# Altium integrated library NSC Audio.IntLib: 301 symbols (part 8 of 8)
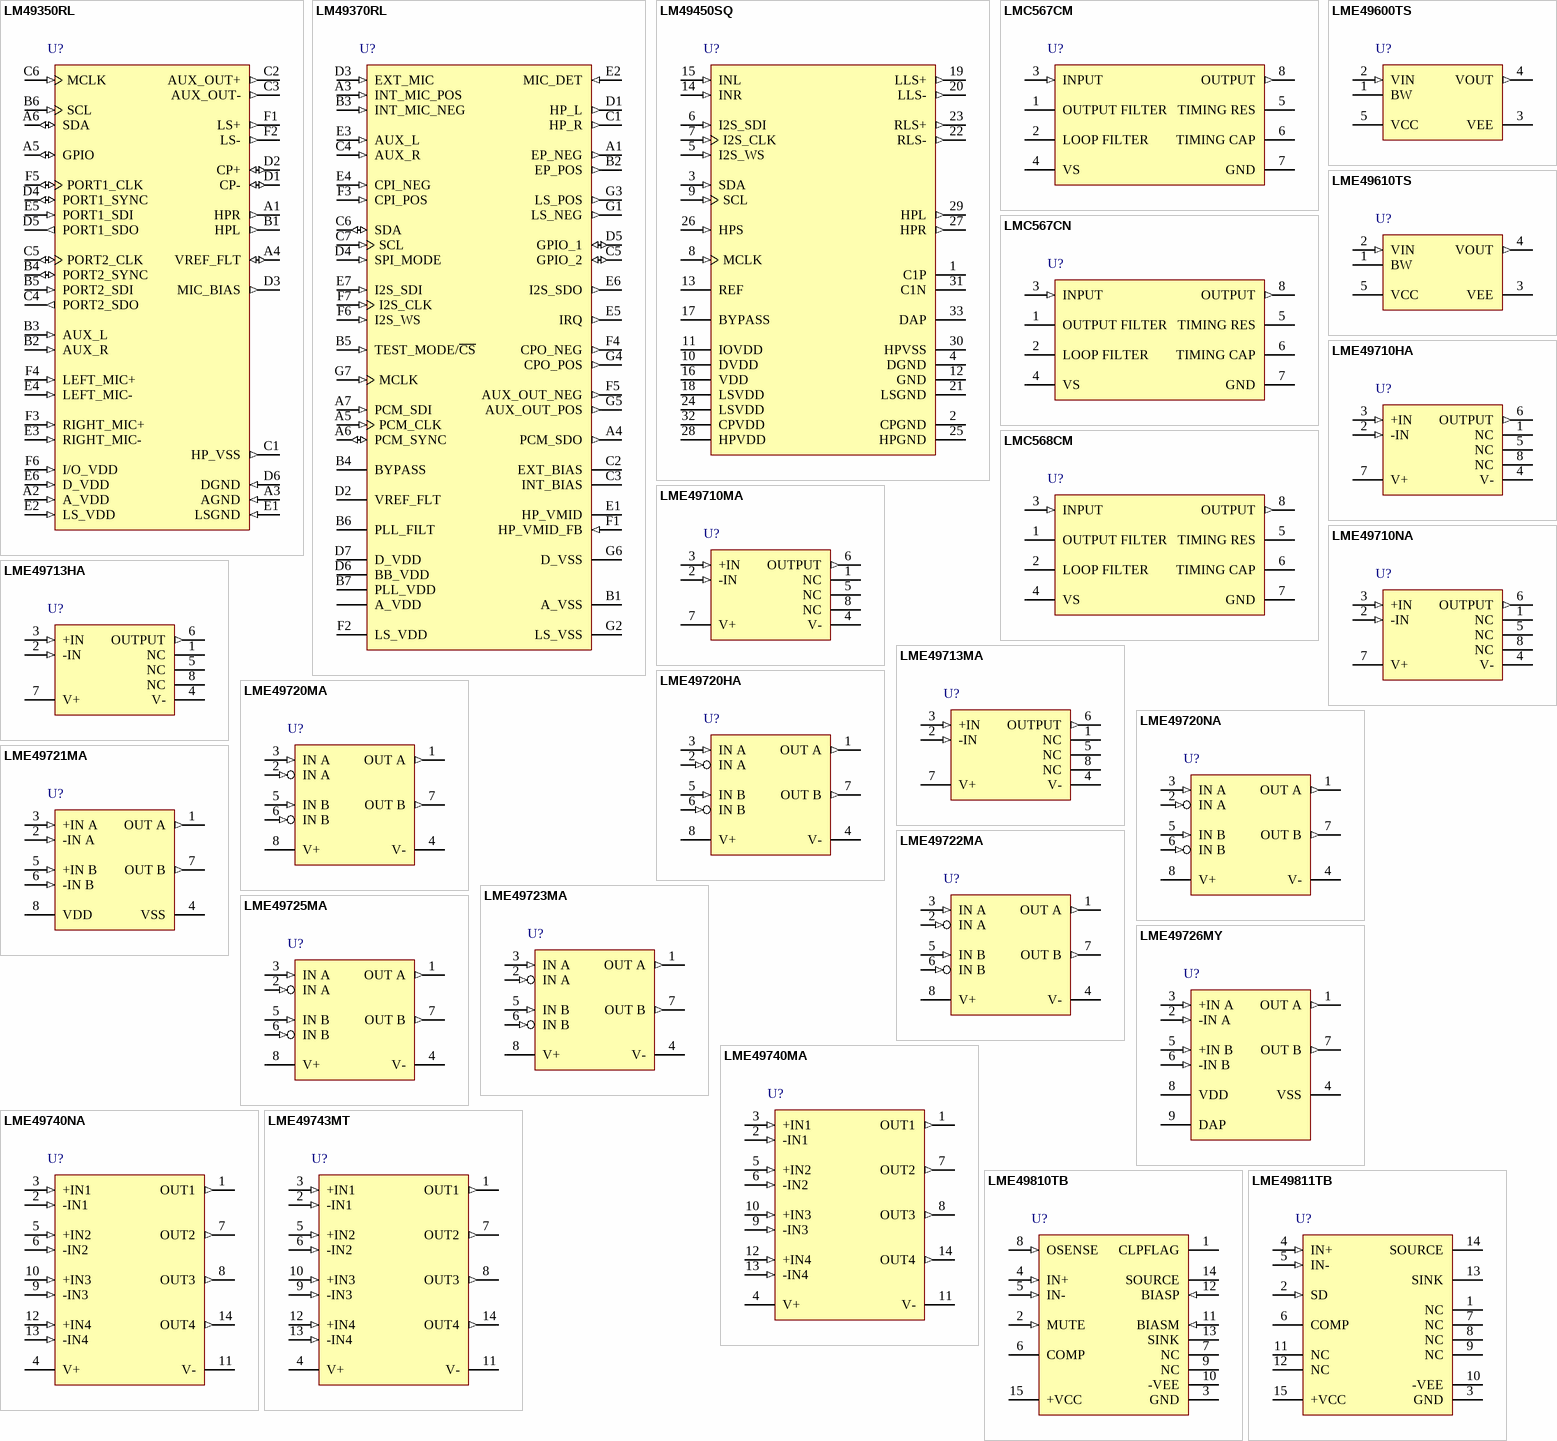
[diagram p19: symbols LM49350RL to LME49811TB]

## LME49743MT
designator U?
Quad High Performance, High Fidelity Audio Operational Amplifier; PartNumber: LME49743MT; Manufacturer: National Semiconductor; CompType: Audio IC; PackageTopMarking: NSUZXYTT*L49743*MT; Published: 4-Dec-2008; DatasheetVersion: Mar-2008; PackageVersion: revD, Jun-2003; PackageReference: MTC14; PackageDescription: Molded TSSOP, JEDEC, 5 x 4.4 x 0.9mm Body, 14 Lead, 0.65mm Pitch; RoHS: Y; PinCount: 14; DigiKeyPartNumber: LME49743MT-ND; Code_JEDEC: MO-153-AB-1; ComponentLink1Description: LME49743 Datasheet; ComponentLink1URL: http://www.national.com/ds/LM/LME49743.pdf; ComponentLink2Description: LME49743 Web Page; ComponentLink2URL: http://www.national.com/pf/LM/LME49743.html; ComponentLink3Description: MTC14 Package Page; ComponentLink3URL: http://www.national.com/packaging/folders/mtc14.html
footprint MTC14_N (TSOP, 14-Leads, Body 5x4.4mm, Pitch 0.65mm, IPC Medium Density)
footprint MTC14_L (TSOP, 14-Leads, Body 5x4.4mm, Pitch 0.65mm, IPC High Density)
footprint MTC14_M (TSOP, 14-Leads, Body 5x4.4mm, Pitch 0.65mm, IPC Low Density)
pins: 1 OUT1 (out), 2 -IN1 (in), 3 +IN1 (in), 4 V+ (power), 5 +IN2 (in), 6 -IN2 (in), 7 OUT2 (out), 8 OUT3 (out), 9 -IN3 (in), 10 +IN3 (in), 11 V- (power), 12 +IN4 (in), 13 -IN4 (in), 14 OUT4 (out)

## LME49810TB
designator U?
200V Audio Power Amplifier Driver  with Baker Clamp; PartNumber: LME49810TB; Manufacturer: National Semiconductor; CompType: Audio IC; PackageTopMarking: NSUZXYTT*LME49810*TB; Published: 4-Dec-2008; DatasheetVersion: Sep-2007; PackageVersion: revA, Feb-2005; PackageReference: TB15A; PackageDescription: TO-247, Molded, 19.0 x 11.5 x 2.54mm, 15 Lead, 0.965mm Pitch; RoHS: Y; PinCount: 15; DigiKeyPartNumber: LME49810TB-ND; ComponentLink1Description: LME49810 Datasheet; ComponentLink1URL: http://www.national.com/ds/LM/LME49810.pdf; ComponentLink2Description: LME49810 Web Page; ComponentLink2URL: http://www.national.com/pf/LM/LME49810.html; ComponentLink3Description: TB15A Package Page; ComponentLink3URL: http://www.national.com/packaging/folders/tb15a.html
footprint TB15A (In-Line; 15 Zig-Zag Leads; Body 19 x 2.54mm; Pitch 0.965mm)
pins: 1 CLPFLAG (oc), 2 MUTE (in), 3 GND (power), 4 IN+ (in), 5 IN- (in), 6 COMP, 7 NC, 8 OSENSE (in), 9 NC, 10 -VEE (power), 11 BIASM (in), 12 BIASP (in), 13 SINK (oc), 14 SOURCE (oe), 15 +VCC (power)

## LME49811TB
designator U?
High Fidelity 200 Volt Power Amplifier Input Stage with Shutdown; PartNumber: LME49811TB; Manufacturer: National Semiconductor; CompType: Audio IC; PackageTopMarking: NSUZXYTT*LME49811*TB; Published: 4-Dec-2008; DatasheetVersion: Jan-2008; PackageVersion: revA, Feb-2005; PackageReference: TB15A; PackageDescription: TO-247, Molded, 19.0 x 11.5 x 2.54mm, 15 Lead, 0.965mm Pitch; RoHS: Y; PinCount: 15; DigiKeyPartNumber: LME49811TB-ND; ComponentLink1Description: LME49811 Datasheet; ComponentLink1URL: http://www.national.com/ds/LM/LME49811.pdf; ComponentLink2Description: LME49811 Web Page; ComponentLink2URL: http://www.national.com/pf/LM/LME49811.html; ComponentLink3Description: TB15A Package Page; ComponentLink3URL: http://www.national.com/packaging/folders/tb15a.html
footprint TB15A (In-Line; 15 Zig-Zag Leads; Body 19 x 2.54mm; Pitch 0.965mm)
pins: 1 NC, 2 SD (in), 3 GND (power), 4 IN+ (in), 5 IN- (in), 6 COMP, 7 NC, 8 NC, 9 NC, 10 -VEE (power), 11 NC, 12 NC, 13 SINK (oc), 14 SOURCE (oe), 15 +VCC (power)

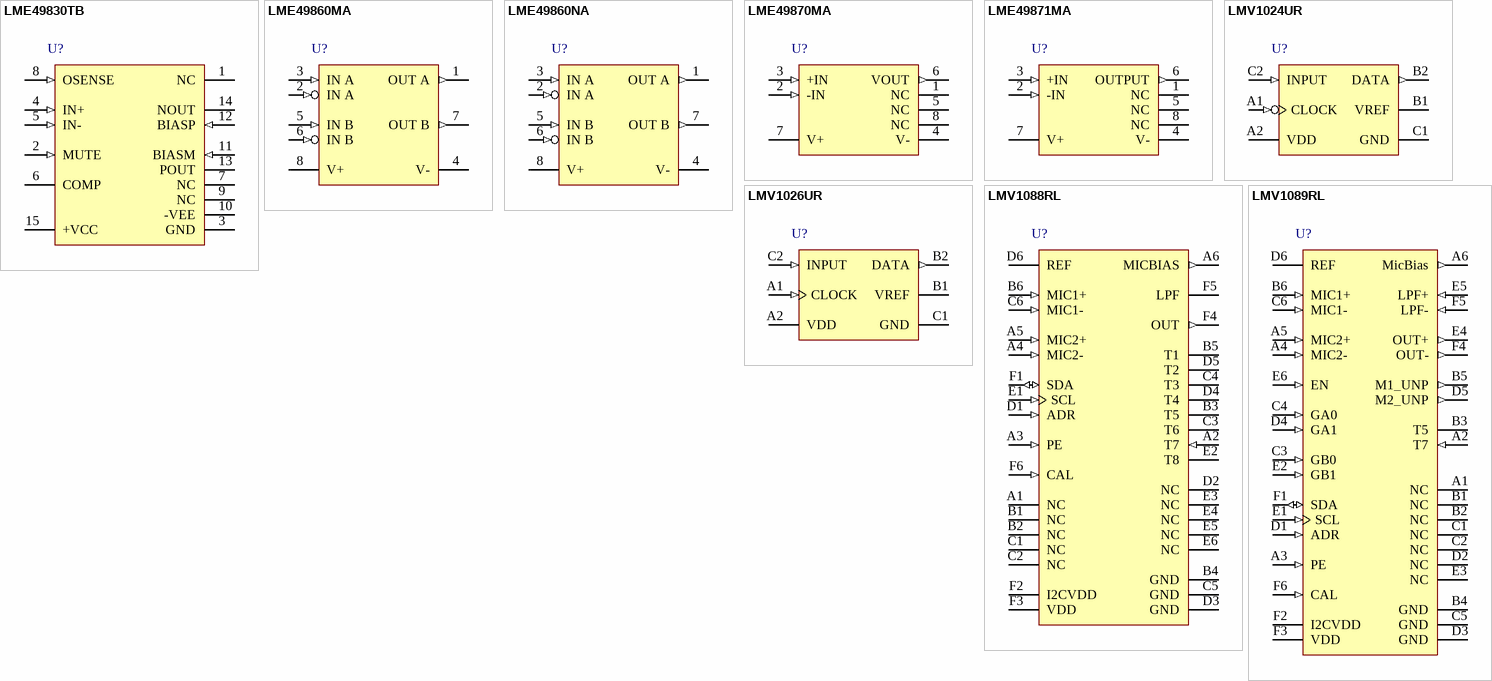
[diagram p12: symbols LME49830TB to LMV1089RL]

## LME49830TB
designator U?
Mono High Fidelity 200 Volt MOSFET Power Amplifier Input Stage with Mute; PartNumber: LME49830TB; Manufacturer: National Semiconductor; CompType: Audio IC; PackageTopMarking: NSUZXYTT*LME49830*TB; Published: 4-Dec-2008; DatasheetVersion: Jan-2008; PackageVersion: revA, Feb-2005; PackageReference: TB15A; PackageDescription: TO-247, Molded, 19.0 x 11.5 x 2.54mm, 15 Lead, 0.965mm Pitch; RoHS: Y; PinCount: 15; DigiKeyPartNumber: LME49830TB-ND; ComponentLink1Description: LME49830 Datasheet; ComponentLink1URL: http://www.national.com/ds/LM/LME49830.pdf; ComponentLink2Description: LME49830 Web Page; ComponentLink2URL: http://www.national.com/pf/LM/LME49830.html; ComponentLink3Description: TB15A Package Page; ComponentLink3URL: http://www.national.com/packaging/folders/tb15a.html
footprint TB15A (In-Line; 15 Zig-Zag Leads; Body 19 x 2.54mm; Pitch 0.965mm)
pins: 1 NC, 2 MUTE (in), 3 GND (power), 4 IN+ (in), 5 IN- (in), 6 COMP, 7 NC, 8 OSENSE (in), 9 NC, 10 -VEE (power), 11 BIASM (in), 12 BIASP (in), 13 POUT (oc), 14 NOUT (oe), 15 +VCC (power)

## LME49860MA
designator U?
44V Dual High Performance, High Fidelity Audio Operational Amplifier; PartNumber: LME49860MA; Manufacturer: National Semiconductor; CompType: Audio IC; PackageTopMarking: NSZXTT*L49860*MA; Published: 4-Dec-2008; DatasheetVersion: Jul-2007; PackageVersion: revL, Sep-2006; PackageReference: M08A; PackageDescription: SOIC Narrow, 4.9 x 3.9 x 1.45mm, 8 Lead, 1.27mm Pitch; RoHS: Y; PinCount: 8; DigiKeyPartNumber: LME49860MA-ND; Code_JEDEC: MS-012-AA; Code_IPC: SOIC127P600-8; ComponentLink1Description: LME49860 Datasheet; ComponentLink1URL: http://www.national.com/ds/LM/LME49860.pdf; ComponentLink2Description: LME49860 Web Page; ComponentLink2URL: http://www.national.com/pf/LM/LME49860.html; ComponentLink3Description: M08A Package Page; ComponentLink3URL: http://www.national.com/packaging/folders/m08a.html
footprint M08A_N (SOIC, 8-Leads, Body 4.9x3.9mm, Pitch 1.27mm, IPC Medium Density)
footprint M08A_L (SOIC, 8-Leads, Body 4.9x3.9mm, Pitch 1.27mm, IPC High Density)
footprint M08A_M (SOIC, 8-Leads, Body 4.9x3.9mm, Pitch 1.27mm, IPC Low Density)
pins: 1 OUT A (out), 2 IN A (in), 3 IN A (in), 4 V- (power), 5 IN B (in), 6 IN B (in), 7 OUT B (out), 8 V+ (power)

## LME49860NA
designator U?
44V Dual High Performance, High Fidelity Audio Operational Amplifier; PartNumber: LME49860NA; Manufacturer: National Semiconductor; CompType: Audio IC; PackageTopMarking: NSUZXYTT*LME*49860NA; Published: 4-Dec-2008; DatasheetVersion: Jul-2007; PackageVersion: revG, May-2006; PackageReference: N08E; PackageDescription: MDIP, .365 x .250 x .130in, 8 Lead, .100in Pitch; RoHS: Y; PinCount: 8; DigiKeyPartNumber: LME49860NA-ND; Code_JEDEC: MS-001-BA; ComponentLink1Description: LME49860 Datasheet; ComponentLink1URL: http://www.national.com/ds/LM/LME49860.pdf; ComponentLink2Description: LME49860 Web Page; ComponentLink2URL: http://www.national.com/pf/LM/LME49860.html; ComponentLink3Description: N08E Package Page; ComponentLink3URL: http://www.national.com/packaging/folders/n08e.html
footprint N08E (DIP, 8-Leads, Row Spacing 7.62mm, Pitch 2.54mm, Body 9.91x6.35mm)
pins: 1 OUT A (out), 2 IN A (in), 3 IN A (in), 4 V- (power), 5 IN B (in), 6 IN B (in), 7 OUT B (out), 8 V+ (power)

## LME49870MA
designator U?
44V Single High Performance, High Fidelity Audio Operational Amplifier; PartNumber: LME49870MA; Manufacturer: National Semiconductor; CompType: Audio IC; PackageTopMarking: NSZXTT*L49870*MA; Published: 4-Dec-2008; DatasheetVersion: Jan-2008; PackageVersion: revL, Sep-2006; PackageReference: M08A; PackageDescription: SOIC Narrow, 4.9 x 3.9 x 1.45mm, 8 Lead, 1.27mm Pitch; RoHS: Y; PinCount: 8; DigiKeyPartNumber: LME49870MA-ND; Code_JEDEC: MS-012-AA; Code_IPC: SOIC127P600-8; ComponentLink1Description: LME49870 Datasheet; ComponentLink1URL: http://www.national.com/ds/LM/LME49870.pdf; ComponentLink2Description: LME49870 Web Page; ComponentLink2URL: http://www.national.com/pf/LM/LME49870.html; ComponentLink3Description: M08A Package Page; ComponentLink3URL: http://www.national.com/packaging/folders/m08a.html
footprint M08A_N (SOIC, 8-Leads, Body 4.9x3.9mm, Pitch 1.27mm, IPC Medium Density)
footprint M08A_L (SOIC, 8-Leads, Body 4.9x3.9mm, Pitch 1.27mm, IPC High Density)
footprint M08A_M (SOIC, 8-Leads, Body 4.9x3.9mm, Pitch 1.27mm, IPC Low Density)
pins: 1 NC, 2 -IN (in), 3 +IN (in), 4 V- (power), 5 NC, 6 VOUT (out), 7 V+ (power), 8 NC

## LME49871MA
designator U?
High Performance, High Fidelity Current Feedback Audio Operational Amplifier; PartNumber: LME49871MA; Manufacturer: National Semiconductor; CompType: Audio IC; PackageTopMarking: NSZXTT*L49871*MA; Published: 4-Dec-2008; DatasheetVersion: Apr-2008; PackageVersion: revL, Sep-2006; PackageReference: M08A; PackageDescription: SOIC Narrow, 4.9 x 3.9 x 1.45mm, 8 Lead, 1.27mm Pitch; RoHS: Y; PinCount: 8; Code_JEDEC: MS-012-AA; Code_IPC: SOIC127P600-8; ComponentLink1Description: LME49871 Datasheet; ComponentLink1URL: http://www.national.com/ds/LM/LME49871.pdf; ComponentLink2Description: LME49871 Web Page; ComponentLink2URL: http://www.national.com/pf/LM/LME49871.html; ComponentLink3Description: M08A Package Page; ComponentLink3URL: http://www.national.com/packaging/folders/m08a.html
footprint M08A_N (SOIC, 8-Leads, Body 4.9x3.9mm, Pitch 1.27mm, IPC Medium Density)
footprint M08A_L (SOIC, 8-Leads, Body 4.9x3.9mm, Pitch 1.27mm, IPC High Density)
footprint M08A_M (SOIC, 8-Leads, Body 4.9x3.9mm, Pitch 1.27mm, IPC Low Density)
pins: 1 NC, 2 -IN (in), 3 +IN (in), 4 V- (power), 5 NC, 6 OUTPUT (out), 7 V+ (power), 8 NC

## LMV1024UR
designator U?
PDM Output with Pre-Amplifier for Electret Microphones; PartNumber: LMV1024UR; Manufacturer: National Semiconductor; CompType: Audio IC; PackageTopMarking: XVA*I E; Published: 4-Dec-2008; DatasheetVersion: Nov-2005; PackageVersion: revA, Mar-2005; PackageReference: URA06GGA; PackageDescription: Ultra Thin Micro SMD, 6 Bump, Large Dome Bumps, 0.5mm Pitch; RoHS: Y; PinCount: 6; DigiKeyPartNumber: LMV1024URCT-ND; ComponentLink1Description: LMV1024 Datasheet; ComponentLink1URL: http://www.national.com/ds/LM/LMV1024.pdf; ComponentLink2Description: LMV1024 Web Page; ComponentLink2URL: http://www.national.com/pf/LM/LMV1024.html; ComponentLink3Description: URA06GGA Package Page; ComponentLink3URL: http://www.national.com/packaging/folders/ura06gga.html
footprint URA06GGA (Micro SMD, 6-Leads, Body 1.63x1.13mm, Pitch 0.5mm, NSC Recommended)
pins: A1 CLOCK (in), A2 VDD (power), B1 VREF, B2 DATA (out), C1 GND (power), C2 INPUT (in)

## LMV1026UR
designator U?
PDM Output with Pre-Amplifier for Electret Microphones; PartNumber: LMV1026UR; Manufacturer: National Semiconductor; CompType: Audio IC; PackageTopMarking: XVA*I F; Published: 4-Dec-2008; DatasheetVersion: Nov-2005; PackageVersion: revA, Mar-2005; PackageReference: URA06GGA; PackageDescription: Ultra Thin Micro SMD, 6 Bump, Large Dome Bumps, 0.5mm Pitch; RoHS: N; PinCount: 6; DigiKeyPartNumber: LMV1026URCT-ND; ComponentLink1Description: LMV1026 Datasheet; ComponentLink1URL: http://www.national.com/ds/LM/LMV1026.pdf; ComponentLink2Description: LMV1026 Web Page; ComponentLink2URL: http://www.national.com/pf/LM/LMV1026.html; ComponentLink3Description: URA06GGA Package Page; ComponentLink3URL: http://www.national.com/packaging/folders/ura06gga.html
footprint URA06GGA (Micro SMD, 6-Leads, Body 1.63x1.13mm, Pitch 0.5mm, NSC Recommended)
pins: A1 CLOCK (in), A2 VDD (power), B1 VREF, B2 DATA (out), C1 GND (power), C2 INPUT (in)

## LMV1088RL
designator U?
Dual Input, Clarisound TM Far Field Noise Suppression Microphone Amplifier with Automatic Calibration Ability; PartNumber: LMV1088RL; Manufacturer: National Semiconductor; CompType: Audio IC; PackageTopMarking: XYTT*I ZA1; Published: 4-Dec-2008; DatasheetVersion: Apr-2008; PackageVersion: revA, 2008; PackageReference: RLA36TTA; PackageDescription: Micro SMDxt, 36 Bump (Large), 0.5mm Pitch; RoHS: Y; PinCount: 36; DigiKeyPartNumber: LMV1088RLCT-ND; ComponentLink1Description: LMV1088 Datasheet; ComponentLink1URL: http://www.national.com/ds/LM/LMV1088.pdf; ComponentLink2Description: LMV1088 Web Page; ComponentLink2URL: http://www.national.com/pf/LM/LMV1088.html; ComponentLink3Description: RLA36TTA Package Page; ComponentLink3URL: http://www.national.com/packaging/folders/rla36tta.html
footprint RLA36TTA (Micro SMD, 36-Leads, Body 3.46x3.46mm, Pitch 0.5mm, NSC Recommended)
pins: A1 NC, A2 T7 (in), A3 PE (in), A4 MIC2- (in), A5 MIC2+ (in), A6 MICBIAS (out), B1 NC, B2 NC, B3 T5, B4 GND (power), B5 T1, B6 MIC1+ (in), C1 NC, C2 NC, C3 T6, C4 T3, C5 GND (power), C6 MIC1- (in), D1 ADR (in), D2 NC, D3 GND (power), D4 T4, D5 T2, D6 REF, E1 SCL (in), E2 T8 (power), E3 NC, E4 NC, E5 NC, E6 NC, F1 SDA (io), F2 I2CVDD (power), F3 VDD (power), F4 OUT (out), F5 LPF, F6 CAL (in)

## LMV1089RL
designator U?
Dual Input, ClarisoundTM Far Field Noise Suppression Microphone Amplifier with Automatic Calibration Capability; PartNumber: LMV1089RL; Manufacturer: National Semiconductor; CompType: Audio IC; PackageTopMarking: XYTT*I ZA2; Published: 4-Dec-2008; DatasheetVersion: Oct-2008; PackageVersion: revA, 2008; PackageReference: RLA36TTA; PackageDescription: Micro SMDxt, 36 Bump (Large), 0.5mm Pitch; RoHS: Y; PinCount: 36; ComponentLink1Description: LMV1089 Datasheet; ComponentLink1URL: http://www.national.com/ds/LM/LMV1089.pdf; ComponentLink2Description: LMV1089 Web Page; ComponentLink2URL: http://www.national.com/pf/LM/LMV1089.html; ComponentLink3Description: RLA36TTA Package Page; ComponentLink3URL: http://www.national.com/packaging/folders/rla36tta.html
footprint RLA36TTA (Micro SMD, 36-Leads, Body 3.46x3.46mm, Pitch 0.5mm, NSC Recommended)
pins: A1 NC, A2 T7 (in), A3 PE (in), A4 MIC2- (in), A5 MIC2+ (in), A6 MicBias (out), B1 NC, B2 NC, B3 T5, B4 GND (power), B5 M1_UNP (out), B6 MIC1+ (in), C1 NC, C2 NC, C3 GB0 (in), C4 GA0 (in), C5 GND (power), C6 MIC1- (in), D1 ADR (in), D2 NC, D3 GND (power), D4 GA1 (in), D5 M2_UNP (out), D6 REF, E1 SCL (in), E2 GB1 (in), E3 NC, E4 OUT+ (out), E5 LPF+ (in), E6 EN (in), F1 SDA (io), F2 I2CVDD (power), F3 VDD (power), F4 OUT- (out), F5 LPF- (in), F6 CAL (in)